# EAGLE library part TPS62177 (library imu_junction)
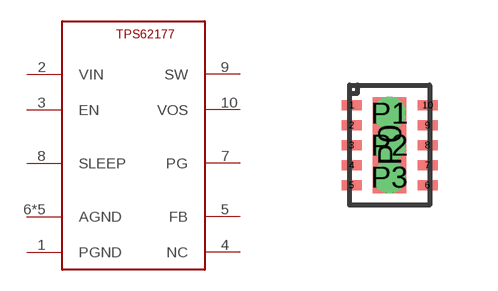
[diagram p2: symbol with the pads of WSON10; footprint WSON10]

Designator prefix -

## TPS62177WSON10  [WSON10]
1  PGND
2  VIN
3  EN
4  NC
5  FB
6  AGND
7  PG
8  SLEEP
9  SW
10  VOS
P0  AGND
P1  AGND
P2  AGND
P3  AGND

## Footprint WSON10 (pad centres in mm)
smd 0.5 x 0.25: 1 -0.95,1; 2 -0.95,0.5; 3 -0.95,0; 4 -0.95,-0.5; 5 -0.95,-1; 6 0.95,-1; 7 0.95,-0.5; 8 0.95,0; 9 0.95,0.5; 10 0.95,1
smd 0.84 x 2.4: P0 0,0
drill 0.305: P1 0,0.8; P2 0,0; P3 0,-0.8